# EAGLE library part 1051490101 (library Molex-MicroSD-1051490101)
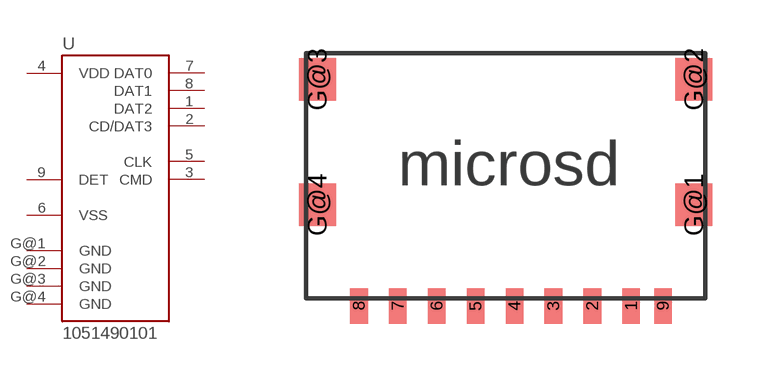
[diagram p0: symbol with the pads of HOLDER; footprint HOLDER]

Designator prefix -

## 1051490101  [HOLDER]
1  DAT2
2  CD/DAT3
3  CMD
4  VDD
5  CLK
6  VSS
7  DAT0
8  DAT1
9  DET
G@1  GND
G@2  GND
G@3  GND
G@4  GND

## Footprint HOLDER (pad centres in mm)
smd 0.5 x 1: 1 9.4,0.5; 2 8.3,0.5; 3 7.2,0.5; 4 6.1,0.5; 5 5,0.5; 6 3.9,0.5; 7 2.8,0.5; 8 1.7,0.5; 9 10.3,0.5
smd 1.05 x 1.2: G@1 11.175,3.36; G@2 11.175,6.91; G@3 0.525,6.91; G@4 0.525,3.36